# EAGLE library part VCNL4040M3OE (library 2023-05-09_15-20-10_Library)
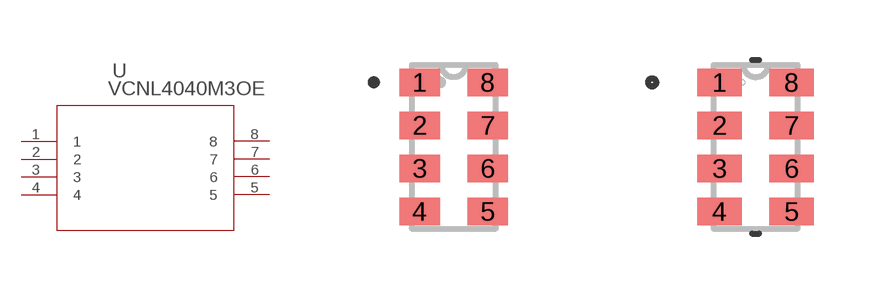
[diagram p0: symbol with the pads of SON_040M3OE_VIS; footprints SON_040M3OE_VIS, SON_040M3OE_VIS-M]

Designator prefix U

## VCNL4040M3OESON_040M3OE_VIS (Copyright: Copyright (C) 2023 Ultra Librarian. All rights reserved.; Manufacturer_Part_Number: VCNL4040M3OE; Mfr_Name: Vishay)  [SON_040M3OE_VIS]
1  1  pas
2  2  pas
3  3  pas
4  4  pas
5  5  pas
6  6  pas
7  7  pas
8  8  pas

## VCNL4040M3OESON_040M3OE_VIS-M (Copyright: Copyright (C) 2023 Ultra Librarian. All rights reserved.; Manufacturer_Part_Number: VCNL4040M3OE; Mfr_Name: Vishay)  [SON_040M3OE_VIS-M]
Pads as for SON_040M3OE_VIS

## VCNL4040M3OESON_040M3OE_VIS-L (Copyright: Copyright (C) 2023 Ultra Librarian. All rights reserved.; Manufacturer_Part_Number: VCNL4040M3OE; Mfr_Name: Vishay)  [SON_040M3OE_VIS-L]
Pads as for SON_040M3OE_VIS

## Footprint SON_040M3OE_VIS (pad centres in mm)
smd 1.016 x 0.686: 1 -0.851,1.613; 2 -0.851,0.537; 3 -0.851,-0.537; 4 -0.851,-1.613; 5 0.851,-1.613; 6 0.851,-0.537; 7 0.851,0.537; 8 0.851,1.613

## Footprint SON_040M3OE_VIS-M (pad centres in mm)
smd 1.118 x 0.686: 1 -0.902,1.613; 2 -0.902,0.537; 3 -0.902,-0.537; 4 -0.902,-1.613; 5 0.902,-1.613; 6 0.902,-0.537; 7 0.902,0.537; 8 0.902,1.613

## Footprint SON_040M3OE_VIS-L (pad centres in mm)
smd 0.914 x 0.686: 1 -0.8,1.613; 2 -0.8,0.537; 3 -0.8,-0.537; 4 -0.8,-1.613; 5 0.8,-1.613; 6 0.8,-0.537; 7 0.8,0.537; 8 0.8,1.613